# EAGLE library part MCP4922 (library MCP4922)
MCP4922 - 12bit DAC, SPI interface Datasheet: http://ww1.microchip.com/downloads/en/DeviceDoc/22250A.pdf
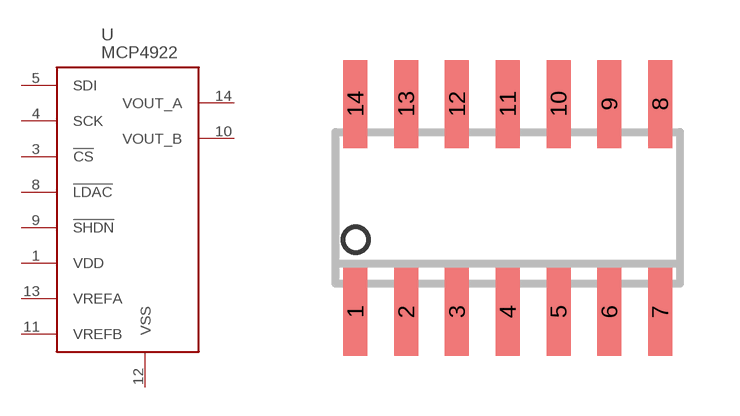
[diagram p0: symbol with the pads of SO-14; footprint SO-14]

Designator prefix U

## MCP4922  [SO-14]
1  VDD
3  !CS
4  SCK
5  SDI
8  !LDAC
9  !SHDN
10  VOUT_B
11  VREFB
12  VSS
13  VREFA
14  VOUT_A

## Footprint SO-14 (pad centres in mm)
Small Outline Narrow Plastic Gull Wing 150-mil body, package type SL
smd 0.6 x 2.2: 1 -3.81,-2.6; 2 -2.54,-2.6; 3 -1.27,-2.6; 4 0,-2.6; 5 1.27,-2.6; 6 2.54,-2.6; 7 3.81,-2.6; 8 3.81,2.6; 9 2.54,2.6; 10 1.27,2.6; 11 0,2.6; 12 -1.27,2.6; 13 -2.54,2.6; 14 -3.81,2.6